# Altium schematic symbol library Schlib1.SchLib: 21 symbols
Pins are listed as number, name and electrical type; pins without a type are passive.

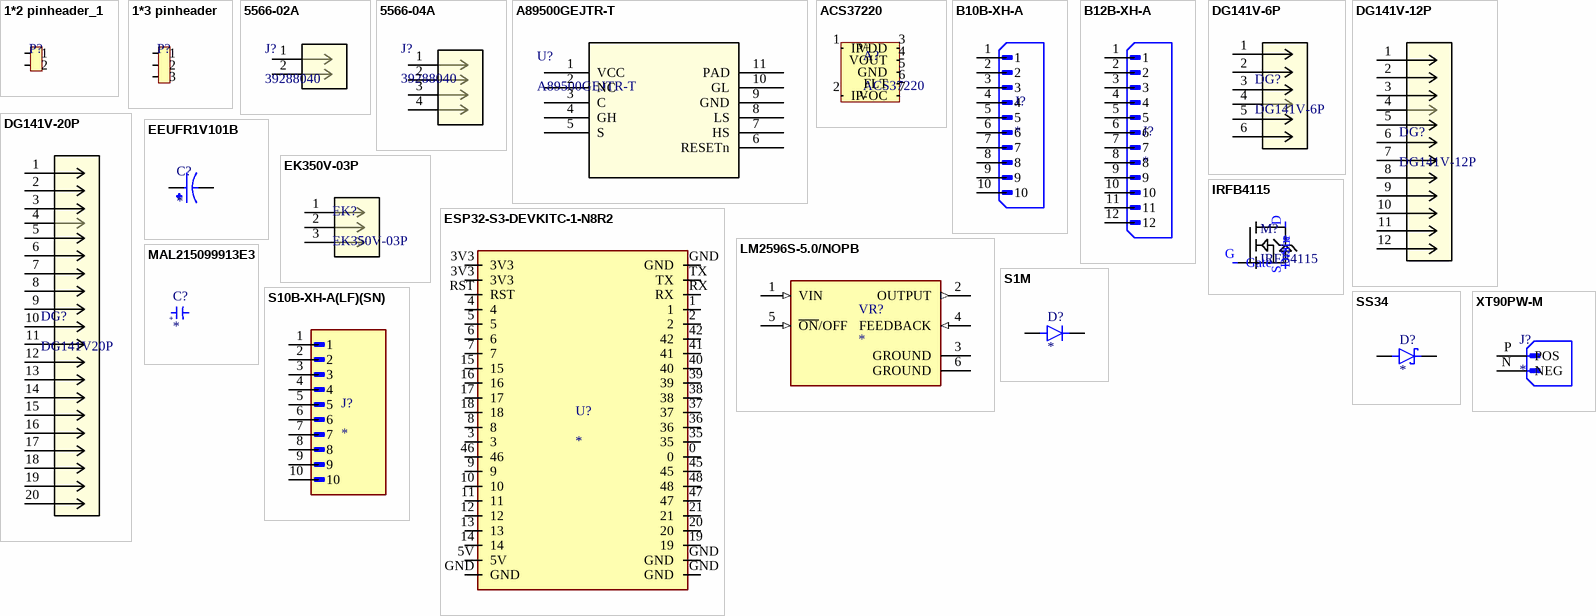
[diagram p0: symbols 1*2 pinheader_1 to XT90PW-M]

## 1*2 pinheader_1
designator P?, comment 1*2 pinheader  (value not drawn)
footprint 1*2 pinheader
pins: 1, 2

## 1*3 pinheader
designator P?  (value not drawn)
footprint 1*3 pinheader
pins: 1, 2, 3

## 5566-02A
designator J?, comment 39288040
Mini-Fit Jr. Vertical Header, 4.20mm Pitch, Dual Row, 2 Circuits, without Snap-in Plastic Peg PCB Lock, Tin, Natural; Manufacturer_Name: Molex Connector Corporation; Copyright: Copyright (C) 2025 Ultra Librarian. All rights reserved.; Manufacturer_Part_Number: 39288040; RefDes: RefDes; Type: Type
footprint 5566-02_MOL
pins: 1, 2

## 5566-04A
designator J?, comment 39288040
Mini-Fit Jr. Vertical Header, 4.20mm Pitch, Dual Row, 4 Circuits, without Snap-in Plastic Peg PCB Lock, Tin, Natural; Manufacturer_Name: Molex Connector Corporation; Copyright: Copyright (C) 2025 Ultra Librarian. All rights reserved.; Manufacturer_Part_Number: 39288040; RefDes: RefDes; Type: Type
footprint 5566-04_MOL
pins: 1, 2, 3, 4

## A89500GEJTR-T
designator U?
Description; Manufacturer_Name: Allegro Microsystems Inc.; Copyright: Copyright (C) 2025 Ultra Librarian. All rights reserved.; Manufacturer_Part_Number: A89500GEJTR-T; RefDes: RefDes; Type: Type
footprint A89500GEJTR-T
pins: 1 VCC (power), 2 NC, 3 C, 4 GH, 5 S, 6 RESETn, 7 HS, 8 LS, 9 GND (power), 10 GL, 11 PAD

## ACS37220
designator A?
footprint ACS37220
pins: 1 IP+, 2 IP-, 3 VDD (power), 4 VOUT, 5 GND, 6 FLT, 7 VOC

## B10B-XH-A
designator J?
MF: {'manufacturer': u'JST Sales America Inc.'}; MP: B10B-XH-A; Package: None; Price: None; Value: *; Availability: Unavailable
footprint JST_B10B-XH-A
pins: 1, 2, 3, 4, 5, 6, 7, 8, 9, 10

## B12B-XH-A
designator J?
MF: {'manufacturer': u'JST Sales America Inc.'}; MP: B12B-XH-A; Package: None; Price: None; Value: *; Availability: Unavailable
footprint JST_B12B-XH-A
pins: 1, 2, 3, 4, 5, 6, 7, 8, 9, 10, 11, 12

## DG141V-6P
designator DG?
footprint 141V-6P ([DINKLE] 141V (6핀) /터미널블럭/푸시버튼타입)
pins: 1, 2, 3, 4, 5, 6

## DG141V-12P
designator DG?
footprint 141V-12P ([DINKLE] 141V (12핀) /터미널블럭/푸시버튼타입)
pins: 1, 2, 3, 4, 5, 6, 7, 8, 9, 10, 11, 12

## DG141V-20P
designator DG?, comment DG141V20P
footprint 141V-20P ([DINKLE] 141V (20핀) /터미널블럭/푸시버튼타입)
pins: 1, 2, 3, 4, 5, 6, 7, 8, 9, 10, 11, 12, 13, 14, 15, 16, 17, 18, 19, 20

## EEUFR1V101B
designator C?
AL LYTIC, RADIAL, 35VDC, 100UF; MP: EEUFR1V101B; MF: Panasonic; Value: *; Check_prices: https://www.snapeda.com/parts/EEUFR1V101B/Panasonic/view-part/5790218/?ref=eda; SnapEDA_Link: https://www.snapeda.com/parts/EEUFR1V101B/Panasonic/view-part/5790218/?ref=snap; Price: None; Availability: In Stock; Package: RADIAL-2 Panasonic
pins: N, P

## EK350V-03P
designator EK?
footprint EK350V-03P
pins: 1, 2, 3

## ESP32-S3-DEVKITC-1-N8R2
designator U?
WiFi Development Tools - 802.11 (Engineering Samples Only) ESP32-S3 General-Purpose Development Board, ESP32-S3-WROOM-1-N8R2, with Pin Header; MF: Espressif Systems; MP: ESP32-S3-DEVKITC-1-N8R2; SnapEDA_Link: https://www.snapeda.com/parts/ESP32-S3-DEVKITC-1-N8R2/Espressif+Systems/view-part/?ref=snap; Package: None; Value: *; Check_prices: https://www.snapeda.com/parts/ESP32-S3-DEVKITC-1-N8R2/Espressif+Systems/view-part/?ref=eda
footprint ESP32-S3-DEVKITC-1
pins: 0, 1, 2, 3, 3V3, 3V3, 4, 5, 5V, 6, 7, 8, 9, 10, 11, 12, 13, 14, 15, 16, 17, 18, 19, 20, 21, 35, 36, 37, 38, 39, 40, 41, 42, 45, 46, 47, 48, GND, GND, GND, GND, RST, RX, TX

## IRFB4115
designator M?
footprint IRFB4115
pins: D Drain, G Gate, S Sce

## LM2596S-5.0/NOPB
designator VR?
SIMPLE SWITCHERÂ® 4.5V to 40V, 3A Low Component Count Step-Down Regulator 5-DDPAK/TO-263; MF: Texas Instruments; MP: LM2596S-5.0; SnapEDA_Link: https://www.snapeda.com/parts/LM2596S-5.0/Texas+Instruments/view-part/?ref=snap; Package: TO-263-5 Texas Instruments; Value: *; Check_prices: https://www.snapeda.com/parts/LM2596S-5.0/Texas+Instruments/view-part/?ref=eda
footprint VREG_LM2596S-5.0/NOPB
pins: 1 VIN (in), 2 OUTPUT (out), 3 GROUND (power), 4 FEEDBACK (in), 5 ~{ON}/OFF (in), 6 GROUND (power)

## MAL215099913E3
designator C?
Cap Aluminum Lytic 470uF 100V 20% (18 X 21mm) SMD 1450mA 5000h 105Â°C Automotive AEC-Q200 T/R; MF: Vishay Beyschlag/Draloric; MP: MAL215099913E3; SnapEDA_Link: https://www.snapeda.com/parts/MAL215099913E3/Vishay/view-part/?ref=snap; Package: None; Value: *; Check_prices: https://www.snapeda.com/parts/MAL215099913E3/Vishay/view-part/?ref=eda
footprint CAPAE1900X2200N
pins: 1, 2
text: +

## S1M
designator D?
Diode, SMA, 1000V, 1A, 150Â°C; MF: Diotec Semiconductor; MP: S1M; SnapEDA_Link: https://www.snapeda.com/parts/S1M/Diotec/view-part/?ref=snap; Package: DO-214AC Diotec; Value: *; Check_prices: https://www.snapeda.com/parts/S1M/Diotec/view-part/?ref=eda
footprint S1M (Diode Standard 1000 V 1A Surface Mount DO-214AC (SMA))
pins: A, C K

## S10B-XH-A(LF)(SN)
designator J?
MP: S10B-XH-A(LF)(SN); Package: None; Price: None; Value: *; Availability: Unavailable
footprint JST_S10B-XH-A(LF)(SN)
pins: 1, 2, 3, 4, 5, 6, 7, 8, 9, 10

## SS34
designator D?
Diode Schottky 40 V 3A Surface Mount SMC (DO-214AB); MF: onsemi; MP: SS34; SnapEDA_Link: https://www.snapeda.com/parts/SS34/Onsemi/view-part/?ref=snap; Package: SMC-2 ON Semiconductor; Value: *; Check_prices: https://www.snapeda.com/parts/SS34/Onsemi/view-part/?ref=eda
footprint DIOM7959X265N
pins: A, C K

## XT90PW-M
designator J?
Socket; DC supply; XT90; male; PIN: 2; on PCBs; THT; Colour: yellow; MF: AMASS; MP: XT90PW-M; SnapEDA_Link: https://www.snapeda.com/parts/XT90PW-M/AMASS/view-part/?ref=snap; Package: Package; Value: *; Check_prices: https://www.snapeda.com/parts/XT90PW-M/AMASS/view-part/?ref=eda
footprint AMASS_XT90PW-M
pins: N NEG, P POS